# Altium footprint library DIP.PcbLib: 17 footprints (part 2 of 2)
Each footprint in its own frame and in the unit in brackets; x right, y up, seen from the top. Pads: shape width x height; smd on the part's side, far side on the other; paste and mask are expansions set on the pad; w line width, h text height; cw(c..) or ccw(c..) is an arc to the next point about the centre after c.
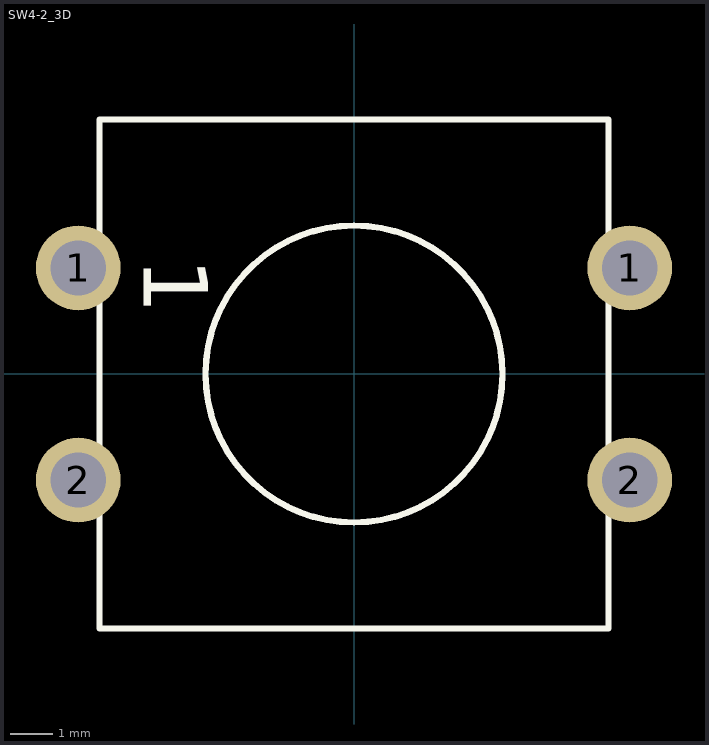
[diagram p1: the footprint, top view; thin cyan lines are the x and y axes]

## SW4-2_3D [mm]
pads (4):
  round 2 hole 1.3: 1(-6.5,2.5) 1(6.5,2.5) 2(-6.5,-2.5) 2(6.5,-2.5)
Top Overlay:
  circle w0.15: c0,0 r3.5
  lines w0.15: -6,-6 -6,6 6,6 6,-6 -6,-6
  text "1" at -4.95,2.74 h1.52
3D body "TC-12EF.STEP": height 12, standoff -3.5, extent -6.934,-6 6.934,6